# Altium footprint library JTag.PcbLib: 1 footprints
Each footprint in its own frame and in the unit in brackets; x right, y up, seen from the top. Pads: shape width x height; smd on the part's side, far side on the other; paste and mask are expansions set on the pad; w line width, h text height; cw(c..) or ccw(c..) is an arc to the next point about the centre after c.
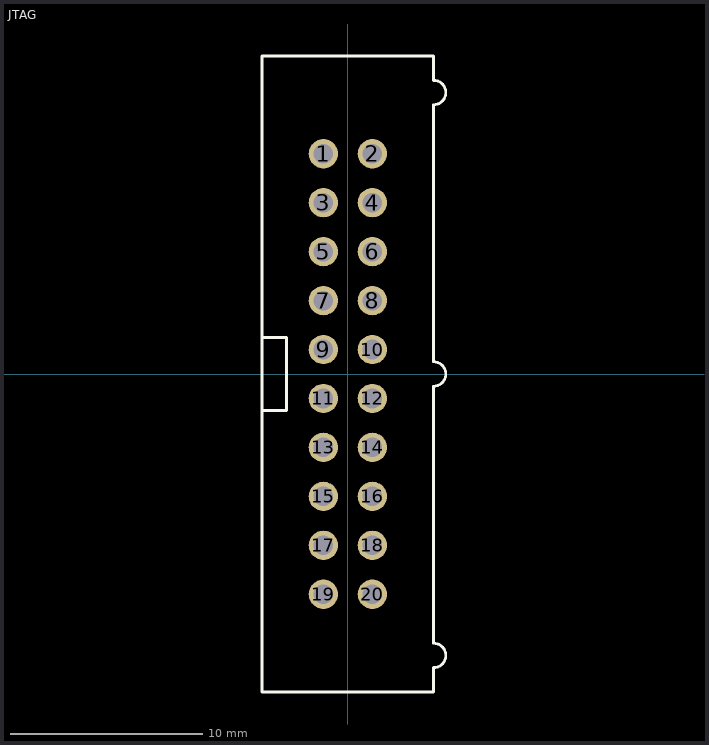
[diagram p0: the footprint, top view; thin cyan lines are the x and y axes]

## JTAG [mil] "下载器"
pads (20):
  round 60 hole 40: 1(-50,450) 2(50,450) 3(-50,350) 4(50,350) 5(-50,250) 6(50,250) 7(-50,150) 8(50,150) 9(-50,50) 10(50,50) 11(-50,-50) 12(50,-50) 13(-50,-150) 14(50,-150) 15(-50,-250) 16(50,-250) 17(-50,-350) 18(50,-350) 19(-50,-450) 20(50,-450)
Top Overlay:
  lines w6: -175,-75 -125,-75 -125,75 -175,75 ; -175,-650 -175,650 175,650 175,600 cw(c175,575) 175,550 175,25 cw(c175,0) 175,-25 175,-550 cw(c175,-575) 175,-600 175,-650 -175,-650